# Altium integrated library DMotor_lib.IntLib: 16 symbols
Pins are listed as number, name and electrical type; pins without a type are passive.

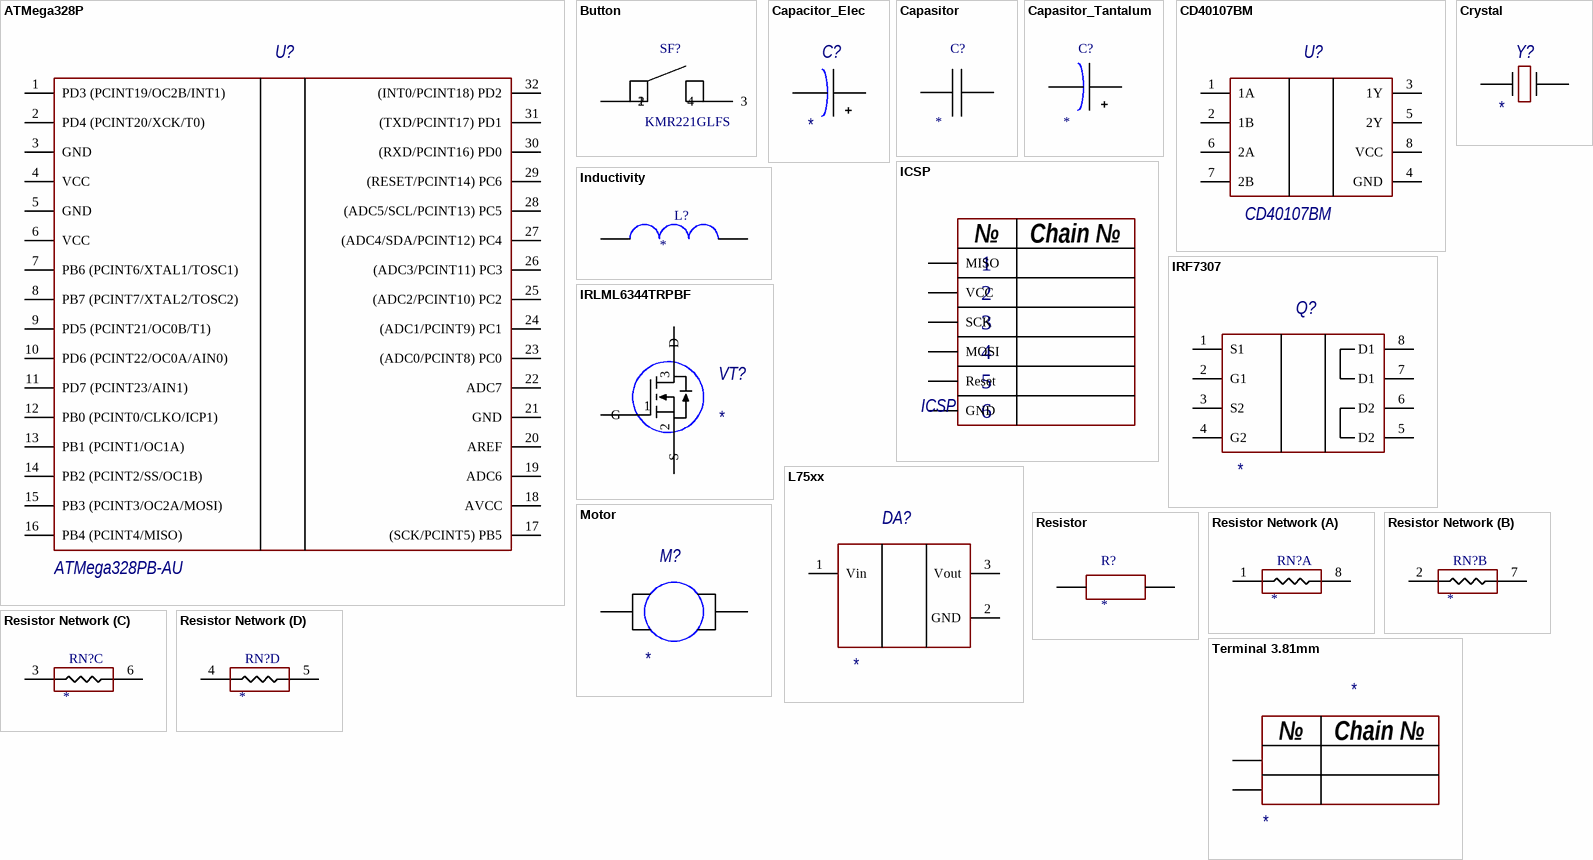
[diagram p0: symbols ATMega328P to Terminal 3.81mm]

## ATMega328P
designator U?, comment ATMega328PB-AU
AVR AVR® ATmega Microcontroller IC 8-Bit 20MHz 32KB (16K x 16) FLASH 32-TQFP (7x7); Manufacturer: Microchip Technology; Model: ATMega328PB-AU; HelpURL: https://www.digikey.com/product-detail/en/microchip-technology/ATMEGA328PB-AU/ATMEGA328PB-AU-ND/5638812; Case: TQFP-32
footprint TQFP-32 (7x7) (TQFP, 32-Leads, Body 7,00x7,00mm, Pitch 0,80mm, IPC Medium Density)
pins: 1 PD3 (PCINT19/OC2B/INT1), 2 PD4 (PCINT20/XCK/T0), 3 GND, 4 VCC, 5 GND, 6 VCC, 7 PB6 (PCINT6/XTAL1/TOSC1), 8 PB7 (PCINT7/XTAL2/TOSC2), 9 PD5 (PCINT21/OC0B/T1), 10 PD6 (PCINT22/OC0A/AIN0), 11 PD7 (PCINT23/AIN1), 12 PB0 (PCINT0/CLKO/ICP1), 13 PB1 (PCINT1/OC1A), 14 PB2 (PCINT2/SS/OC1B), 15 PB3 (PCINT3/OC2A/MOSI), 16 PB4 (PCINT4/MISO), 17 (SCK/PCINT5) PB5, 18 AVCC, 19 ADC6, 20 AREF, 21 GND, 22 ADC7, 23 (ADC0/PCINT8) PC0, 24 (ADC1/PCINT9) PC1, 25 (ADC2/PCINT10) PC2, 26 (ADC3/PCINT11) PC3, 27 (ADC4/SDA/PCINT12) PC4, 28 (ADC5/SCL/PCINT13) PC5, 29 (RESET/PCINT14) PC6, 30 (RXD/PCINT16) PD0, 31 (TXD/PCINT17) PD1, 32 (INT0/PCINT18) PD2

## Button
designator SF?, comment KMR221GLFS
SWITCH TACTILE SPST-NO 0.05A 32V; Manufacturer: C&K; HelpURL: https://www.digikey.com/product-detail/en/c-k/KMR221GLFS/401-1427-1-ND/550466; Model: KMR221GLFS; Case: KMR221GLFS
footprint KMR221GLFS
pins: 1, 2, 3, 4

## Capacitor_Elec
designator C?
Value: *; Manufacturer: *; HelpURL: *; Model: *; Case: *
footprint CapElec_8x16_3.5mm
footprint CapElec_5x11_2mm
pins: 1, 2

## Capasitor
designator C?
Value: *; Case: *; Manufacturer: *; HelpURL: *; Model: *
footprint C0603
pins: 1, 2

## Capasitor_Tantalum
designator C?
Value: *; Case: *; Manufacturer: *; HelpURL: *; Model: *
footprint TANT-A
footprint TANT-B
pins: 1, 2

## CD40107BM
designator U?
NAND Gate IC 2 Channel Open Drain 8-SOIC; Manufacturer: Texas Instruments; Model: CD40107BM; HelpURL: https://www.chipdip.by/product/cd40107bm; Case: SOIC-8
footprint PDIP-8
footprint SOIC-8
pins: 1 1A, 2 1B, 3 1Y, 4 GND, 5 2Y, 6 2A, 7 2B, 8 VCC

## Crystal
designator Y?
Value: *; Model: *; HelpURL: *; Case: *
footprint HC-49S
pins: 1, 2

## ICSP
designator ICSP
Case: *; Model: *; HelpURL: *
footprint 2x3 Male Header Through Hole Pitch 2.54 mm
pins: 1 MISO, 2 VCC, 3 SCK, 4 MOSI, 5 Reset, 6 GND
text: №; Chain №

## Inductivity
designator L?
Model: *; Manufacturer: *; HelpURL: *; Case: *; Value: *
footprint IND1206
pins: 1, 2

## IRF7307
designator Q?
Mosfet Array N and P-Channel 20V 5.2A, 4.3A 2W Surface Mount 8-SO; Manufacturer: Infineon Technologies; Model: *; HelpURL: https://www.digikey.com/product-detail/en/infineon-technologies/IRF7307TRPBF/IRF7307PBFCT-ND/812597; Case: SOIC-8
footprint SOIC-8
pins: 1 S1, 2 G1, 3 S2, 4 G2, 5 D2, 6 D2, 7 D1, 8 D1

## IRLML6344TRPBF
designator VT?
N-Channel 30V 5A (Ta) 1.3W (Ta) Surface Mount Micro3™/SOT-23; Manufacturer: Infineon Technologies; Case: SOT-23-3; HelpURL: https://www.digikey.com/product-detail/en/infineon-technologies/IRLML6344TRPBF/IRLML6344TRPBFCT-ND/2538168; Model: *
footprint SOT-23-3
pins: 1 G, 2 S, 3 D

## L75xx
designator DA?
Linear Voltage Regulator IC  1 Output  1.5A TO-220AB; Manufacturer: STMicroelectronics; Case: TO-220; HelpURL: https://www.digikey.com/product-detail/en/stmicroelectronics/L7805CV/497-1443-5-ND/585964; Model: *
footprint TO-220A
pins: 1 Vin, 2 GND, 3 Vout

## Motor
designator M?
Manufacturer: *; Case: *; HelpURL: *; Model: *
pins: 1, 2

## Resistor
designator R?
Model: *; Value: *; HelpURL: *; Case: *; Manufacturer: *
footprint R0603
pins: 1, 2

## Resistor Network
designator RN?  (graphical)
Model: *; Value: *; HelpURL: *; Case: *; Manufacturer: *
footprint RN_YC164-JR-072K2L (Chip Array, ConvexE, 8-Leads, Pitch 0,80mm,  Body 3,20x1,60mm,  IPC Medium Density)
part A pins: 1, 8
part B pins: 2, 7
part C pins: 3, 6
part D pins: 4, 5

## Terminal 3.81mm
designator *
Manufacturer: *; HelpURL: *; Model: *; Case: *
footprint Terminal 2x 3.81mm
pins: 1, 2
text: №; Chain №